# Altium schematic symbol library ADC.SchLib: 2 symbols
Pins are listed as number, name and electrical type; pins without a type are passive.

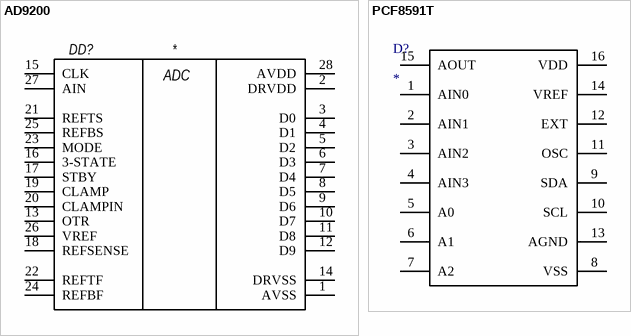
[diagram p0: symbols AD9200 to PCF8591T]

## AD9200
designator DD?
pins: 1 AVSS, 2 DRVDD, 3 D0, 4 D1, 5 D2, 6 D3, 7 D4, 8 D5, 9 D6, 10 D7, 11 D8, 12 D9, 13 OTR, 14 DRVSS, 15 CLK, 16 3-STATE, 17 STBY, 18 REFSENSE, 19 CLAMP, 20 CLAMPIN, 21 REFTS, 22 REFTF, 23 MODE, 24 REFBF, 25 REFBS, 26 VREF, 27 AIN, 28 AVDD
text: ADC

## PCF8591T
designator D?
pins: 1 AIN0, 2 AIN1, 3 AIN2, 4 AIN3, 5 A0, 6 A1, 7 A2, 8 VSS, 9 SDA, 10 SCL, 11 OSC, 12 EXT, 13 AGND, 14 VREF, 15 AOUT, 16 VDD